# Altium schematic symbol library SP0503BAHTG.SchLib: 1 symbol
Pins are listed as number, name and electrical type; pins without a type are passive.

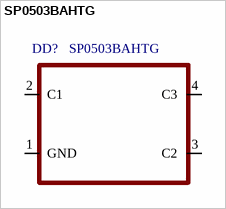
[diagram p0: symbol SP0503BAHTG]

## SP0503BAHTG
designator DD?
pins: 1 GND, 2 C1, 3 C2, 4 C3